# Altium integrated library Microchip PIC16 Part 1.IntLib: 1800 symbols (part 90 of 93)
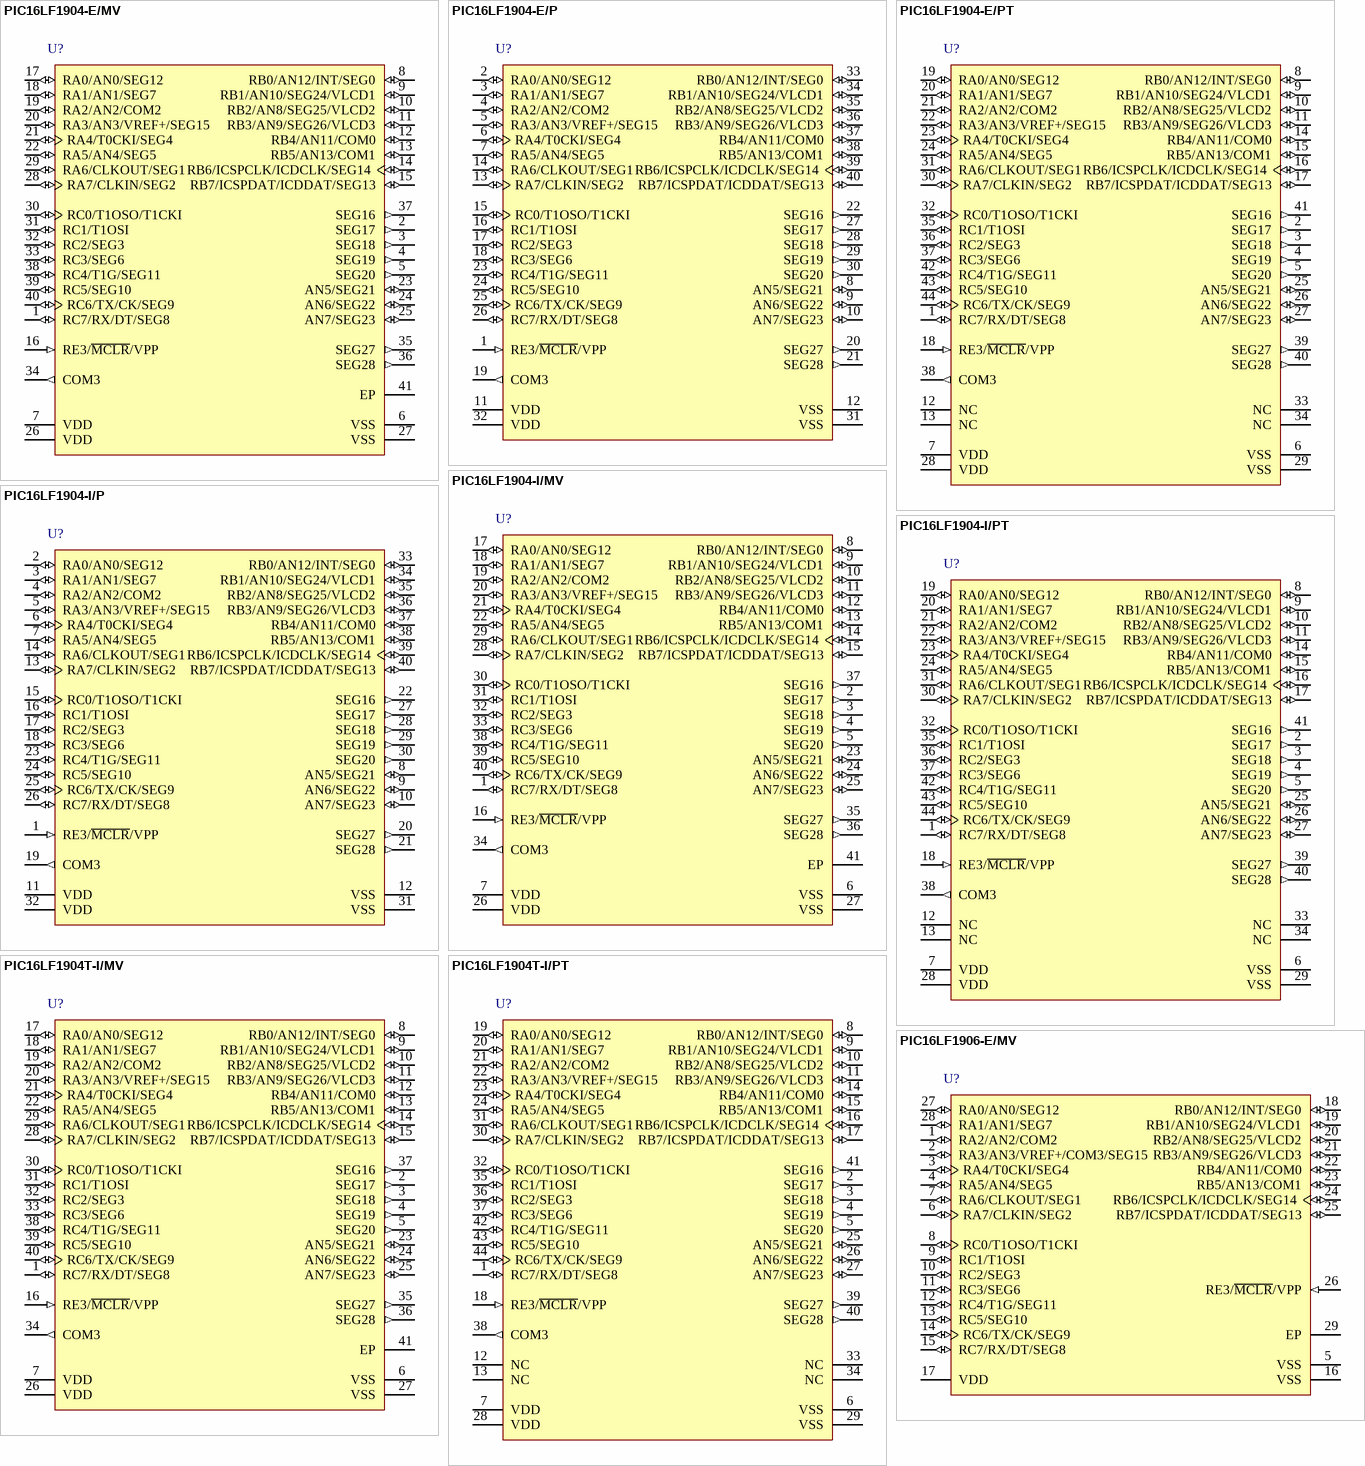
[diagram p188: symbols PIC16LF1904-E/MV to PIC16LF1906-E/MV]

## PIC16LF1904-E/PT
designator U?
Flash-Based, 8-Bit CMOS Microcontroller with LCD Driver and nanoWatt XLP Technology, 20 MHz, 35 I/O, -40 to 125 degC, 44-pin TQFP (PT44), Tray; Manufacturer: Microchip; PartNumber: PIC16LF1904-E/PT; # of A/D Channels: 14; Digital Communication: 1 -A/E/USART; I/O Pins: 35; Internal Oscillator: 16 MHz, 31 kHz; Max. CPU Speed MHz: 20; Memory Type: Flash; Operation Voltage Range: 1.8V - 3.6V; Program Memory KBytes: 7; Program Memory KWords: 4; RAM: 256; Timers: 1 - 8-bit, 1 - 16-bit; DatasheetVersion: Rev. A; PackageVersion: C04-076B, 12/2012; PackageReference: TQFP-PT44; PackageDescription: 44-Lead Plastic Thin Quad Flatpack, 10 x 10 mm Body, 0.8 mm Pitch; Supplier 1: Digi-Key; Supplier Part Number 1: PIC16LF1904-E/PT-ND; Supplier 2: Mouser; Supplier Part Number 2: 579-PIC16LF1904-E/PT; Packing: TRAY; RoHS: TRUE; Mounting Technology: Surface Mount; ComponentLink1Description: Datasheet; ComponentLink1URL: http://ww1.microchip.com/downloads/en/DeviceDoc/41569A.pdf; ComponentLink2Description: Package Specification; ComponentLink2URL: http://www.microchip.com/stellent/groups/techpub_sg/documents/packagingspec/en012702.pdf; ComponentLink3Description: URL Link1; ComponentLink3URL: Product URL:http://www.microchip.com/datasheet/PIC16LF1904
footprint MCHP-TQFP-PT44_N (QFN, 44-Leads, Body 10x10mm, Pitch 0.8mm, IPC Medium Density)
footprint MCHP-TQFP-PT44_L (QFN, 44-Leads, Body 10x10mm, Pitch 0.8mm, IPC High Density)
footprint MCHP-TQFP-PT44_M (QFN, 44-Leads, Body 10x10mm, Pitch 0.8mm, IPC Low Density)
pins: 1 RC7/RX/DT/SEG8 (io), 2 SEG17 (out) "LCD Analog output.", 3 SEG18 (out) "LCD Analog output.", 4 SEG19 (out) "LCD Analog output.", 5 SEG20 (out) "LCD Analog output.", 6 VSS (power) "Ground reference.", 7 VDD (power) "Positive supply.", 8 RB0/AN12/INT/SEG0 (io), 9 RB1/AN10/SEG24/VLCD1 (io), 10 RB2/AN8/SEG25/VLCD2 (io), 11 RB3/AN9/SEG26/VLCD3 (io), 12 NC, 13 NC, 14 RB4/AN11/COM0 (io), 15 RB5/AN13/COM1 (io), 16 RB6/ICSPCLK/ICDCLK/SEG14 (io), 17 RB7/ICSPDAT/ICDDAT/SEG13 (io), 18 RE3/~{MCLR}/VPP (in), 19 RA0/AN0/SEG12 (io), 20 RA1/AN1/SEG7 (io), 21 RA2/AN2/COM2 (io), 22 RA3/AN3/VREF+/SEG15 (io), 23 RA4/T0CKI/SEG4 (io), 24 RA5/AN4/SEG5 (io), 25 AN5/SEG21 (io), 26 AN6/SEG22 (io), 27 AN7/SEG23 (io), 28 VDD (power) "Positive supply.", 29 VSS (power) "Ground reference.", 30 RA7/CLKIN/SEG2 (io), 31 RA6/CLKOUT/SEG1 (io), 32 RC0/T1OSO/T1CKI (io), 33 NC, 34 NC, 35 RC1/T1OSI (io), 36 RC2/SEG3 (io), 37 RC3/SEG6 (io), 38 COM3 (out) "LCD Analog output.", 39 SEG27 (out) "LCD Analog output.", 40 SEG28 (out) "LCD Analog output.", 41 SEG16 (out) "LCD Analog output.", 42 RC4/T1G/SEG11 (io), 43 RC5/SEG10 (io), 44 RC6/TX/CK/SEG9 (io)

## PIC16LF1904-I/MV
designator U?
Flash-Based, 8-Bit CMOS Microcontroller with LCD Driver and nanoWatt XLP Technology, 20 MHz, 35 I/O, -40 to 85 degC, 40-pin UQFN (MV40), Tube; Manufacturer: Microchip; PartNumber: PIC16LF1904-I/MV; # of A/D Channels: 14; Digital Communication: 1 -A/E/USART; I/O Pins: 35; Internal Oscillator: 16 MHz, 31 kHz; Max. CPU Speed MHz: 20; Memory Type: Flash; Operation Voltage Range: 1.8V - 3.6V; Program Memory KBytes: 7; Program Memory KWords: 4; RAM: 256; Timers: 1 - 8-bit, 1 - 16-bit; DatasheetVersion: Rev. A; PackageVersion: C04-156A, 04/2013; PackageReference: UQFN-MV40; PackageDescription: 40-Lead Plastic Ultra Thin Quad Flat, No Lead Package, Body 5 x 5 mm, Pitch 0.4 mm; Supplier 1: Digi-Key; Supplier Part Number 1: PIC16LF1904-I/MV-ND; Supplier 2: Farnell; Supplier Part Number 2: 1909412; Supplier 3: Newark; Supplier Part Number 3: 23T3129; Supplier 4: Mouser; Supplier Part Number 4: 579-PIC16LF1904-I/MV; Packing: TUBE; RoHS: TRUE; Mounting Technology: Surface Mount; ComponentLink1Description: Datasheet; ComponentLink1URL: http://ww1.microchip.com/downloads/en/DeviceDoc/41569A.pdf; ComponentLink2Description: Package Specification; ComponentLink2URL: http://www.microchip.com/stellent/groups/techpub_sg/documents/packagingspec/en012702.pdf; ComponentLink3Description: URL Link1; ComponentLink3URL: Product URL:http://www.microchip.com/datasheet/PIC16LF1904
footprint MCHP-UQFN-MV40_N (QFN, 40-Leads, Body 5x5mm, Pitch 0.4mm, Thermal Pad 3.7x3.7mm, IPC Medium Density)
footprint MCHP-UQFN-MV40_L (QFN, 40-Leads, Body 5x5mm, Pitch 0.4mm, Thermal Pad 3.7x3.7mm, IPC High Density)
footprint MCHP-UQFN-MV40_M (QFN, 40-Leads, Body 5x5mm, Pitch 0.4mm, Thermal Pad 3.7x3.7mm, IPC Low Density)
pins: 1 RC7/RX/DT/SEG8 (io), 2 SEG17 (out) "LCD Analog output.", 3 SEG18 (out) "LCD Analog output.", 4 SEG19 (out) "LCD Analog output.", 5 SEG20 (out) "LCD Analog output.", 6 VSS (power) "Ground reference.", 7 VDD (power) "Positive supply.", 8 RB0/AN12/INT/SEG0 (io), 9 RB1/AN10/SEG24/VLCD1 (io), 10 RB2/AN8/SEG25/VLCD2 (io), 11 RB3/AN9/SEG26/VLCD3 (io), 12 RB4/AN11/COM0 (io), 13 RB5/AN13/COM1 (io), 14 RB6/ICSPCLK/ICDCLK/SEG14 (io), 15 RB7/ICSPDAT/ICDDAT/SEG13 (io), 16 RE3/~{MCLR}/VPP (in), 17 RA0/AN0/SEG12 (io), 18 RA1/AN1/SEG7 (io), 19 RA2/AN2/COM2 (io), 20 RA3/AN3/VREF+/SEG15 (io), 21 RA4/T0CKI/SEG4 (io), 22 RA5/AN4/SEG5 (io), 23 AN5/SEG21 (io), 24 AN6/SEG22 (io), 25 AN7/SEG23 (io), 26 VDD (power) "Positive supply.", 27 VSS (power) "Ground reference.", 28 RA7/CLKIN/SEG2 (io), 29 RA6/CLKOUT/SEG1 (io), 30 RC0/T1OSO/T1CKI (io), 31 RC1/T1OSI (io), 32 RC2/SEG3 (io), 33 RC3/SEG6 (io), 34 COM3 (out) "LCD Analog output.", 35 SEG27 (out) "LCD Analog output.", 36 SEG28 (out) "LCD Analog output.", 37 SEG16 (out) "LCD Analog output.", 38 RC4/T1G/SEG11 (io), 39 RC5/SEG10 (io), 40 RC6/TX/CK/SEG9 (io), 41 EP

## PIC16LF1904-I/P
designator U?
Flash-Based, 8-Bit CMOS Microcontroller with LCD Driver and nanoWatt XLP Technology, 20 MHz, 35 I/O, -40 to 85 degC, 40-pin PDIP (P40), Tube; Manufacturer: Microchip; PartNumber: PIC16LF1904-I/P; # of A/D Channels: 14; Digital Communication: 1 -A/E/USART; I/O Pins: 35; Internal Oscillator: 16 MHz, 31 kHz; Max. CPU Speed MHz: 20; Memory Type: Flash; Operation Voltage Range: 1.8V - 3.6V; Program Memory KBytes: 7; Program Memory KWords: 4; RAM: 256; Timers: 1 - 8-bit, 1 - 16-bit; DatasheetVersion: Rev. A; PackageVersion: C04-016B, 04/2013; PackageReference: PDIP-P40; PackageDescription: 40-Lead Plastic Dual In-Line Package, Body 51.75 x 13.53 mm, Pitch 2.54 mm; Supplier 1: Digi-Key; Supplier Part Number 1: PIC16LF1904-I/P-ND; Supplier 2: Farnell; Supplier Part Number 2: 1909434; Supplier 3: Newark; Supplier Part Number 3: 23T3130; Supplier 4: Mouser; Supplier Part Number 4: 579-PIC16LF1904-I/P; Packing: TUBE; RoHS: TRUE; Mounting Technology: Through Hole; ComponentLink1Description: Datasheet; ComponentLink1URL: http://ww1.microchip.com/downloads/en/DeviceDoc/41569A.pdf; ComponentLink2Description: Package Specification; ComponentLink2URL: http://www.microchip.com/stellent/groups/techpub_sg/documents/packagingspec/en012702.pdf; ComponentLink3Description: URL Link1; ComponentLink3URL: Product URL:http://www.microchip.com/datasheet/PIC16LF1904
footprint MCHP-PDIP-P40 (PDIP, 40-Leads, Body 51.75x13.53mm, Pitch 2.54mm)
pins: 1 RE3/~{MCLR}/VPP (in), 2 RA0/AN0/SEG12 (io), 3 RA1/AN1/SEG7 (io), 4 RA2/AN2/COM2 (io), 5 RA3/AN3/VREF+/SEG15 (io), 6 RA4/T0CKI/SEG4 (io), 7 RA5/AN4/SEG5 (io), 8 AN5/SEG21 (io), 9 AN6/SEG22 (io), 10 AN7/SEG23 (io), 11 VDD (power) "Positive supply.", 12 VSS (power) "Ground reference.", 13 RA7/CLKIN/SEG2 (io), 14 RA6/CLKOUT/SEG1 (io), 15 RC0/T1OSO/T1CKI (io), 16 RC1/T1OSI (io), 17 RC2/SEG3 (io), 18 RC3/SEG6 (io), 19 COM3 (out) "LCD Analog output.", 20 SEG27 (out) "LCD Analog output.", 21 SEG28 (out) "LCD Analog output.", 22 SEG16 (out) "LCD Analog output.", 23 RC4/T1G/SEG11 (io), 24 RC5/SEG10 (io), 25 RC6/TX/CK/SEG9 (io), 26 RC7/RX/DT/SEG8 (io), 27 SEG17 (out) "LCD Analog output.", 28 SEG18 (out) "LCD Analog output.", 29 SEG19 (out) "LCD Analog output.", 30 SEG20 (out) "LCD Analog output.", 31 VSS (power) "Ground reference.", 32 VDD (power) "Positive supply.", 33 RB0/AN12/INT/SEG0 (io), 34 RB1/AN10/SEG24/VLCD1 (io), 35 RB2/AN8/SEG25/VLCD2 (io), 36 RB3/AN9/SEG26/VLCD3 (io), 37 RB4/AN11/COM0 (io), 38 RB5/AN13/COM1 (io), 39 RB6/ICSPCLK/ICDCLK/SEG14 (io), 40 RB7/ICSPDAT/ICDDAT/SEG13 (io)

## PIC16LF1904-I/PT
designator U?
Flash-Based, 8-Bit CMOS Microcontroller with LCD Driver and nanoWatt XLP Technology, 20 MHz, 35 I/O, -40 to 85 degC, 44-pin TQFP (PT44), Tray; Manufacturer: Microchip; PartNumber: PIC16LF1904-I/PT; # of A/D Channels: 14; Digital Communication: 1 -A/E/USART; I/O Pins: 35; Internal Oscillator: 16 MHz, 31 kHz; Max. CPU Speed MHz: 20; Memory Type: Flash; Operation Voltage Range: 1.8V - 3.6V; Program Memory KBytes: 7; Program Memory KWords: 4; RAM: 256; Timers: 1 - 8-bit, 1 - 16-bit; DatasheetVersion: Rev. A; PackageVersion: C04-076B, 12/2012; PackageReference: TQFP-PT44; PackageDescription: 44-Lead Plastic Thin Quad Flatpack, 10 x 10 mm Body, 0.8 mm Pitch; Supplier 1: Digi-Key; Supplier Part Number 1: PIC16LF1904-I/PT-ND; Supplier 2: Farnell; Supplier Part Number 2: 1909413; Supplier 3: Newark; Supplier Part Number 3: 23T3131; Supplier 4: Mouser; Supplier Part Number 4: 579-PIC16LF1904-I/PT; Packing: TRAY; RoHS: TRUE; Mounting Technology: Surface Mount; ComponentLink1Description: Datasheet; ComponentLink1URL: http://ww1.microchip.com/downloads/en/DeviceDoc/41569A.pdf; ComponentLink2Description: Package Specification; ComponentLink2URL: http://www.microchip.com/stellent/groups/techpub_sg/documents/packagingspec/en012702.pdf; ComponentLink3Description: URL Link1; ComponentLink3URL: Product URL:http://www.microchip.com/datasheet/PIC16LF1904
footprint MCHP-TQFP-PT44_N (QFN, 44-Leads, Body 10x10mm, Pitch 0.8mm, IPC Medium Density)
footprint MCHP-TQFP-PT44_L (QFN, 44-Leads, Body 10x10mm, Pitch 0.8mm, IPC High Density)
footprint MCHP-TQFP-PT44_M (QFN, 44-Leads, Body 10x10mm, Pitch 0.8mm, IPC Low Density)
pins: 1 RC7/RX/DT/SEG8 (io), 2 SEG17 (out) "LCD Analog output.", 3 SEG18 (out) "LCD Analog output.", 4 SEG19 (out) "LCD Analog output.", 5 SEG20 (out) "LCD Analog output.", 6 VSS (power) "Ground reference.", 7 VDD (power) "Positive supply.", 8 RB0/AN12/INT/SEG0 (io), 9 RB1/AN10/SEG24/VLCD1 (io), 10 RB2/AN8/SEG25/VLCD2 (io), 11 RB3/AN9/SEG26/VLCD3 (io), 12 NC, 13 NC, 14 RB4/AN11/COM0 (io), 15 RB5/AN13/COM1 (io), 16 RB6/ICSPCLK/ICDCLK/SEG14 (io), 17 RB7/ICSPDAT/ICDDAT/SEG13 (io), 18 RE3/~{MCLR}/VPP (in), 19 RA0/AN0/SEG12 (io), 20 RA1/AN1/SEG7 (io), 21 RA2/AN2/COM2 (io), 22 RA3/AN3/VREF+/SEG15 (io), 23 RA4/T0CKI/SEG4 (io), 24 RA5/AN4/SEG5 (io), 25 AN5/SEG21 (io), 26 AN6/SEG22 (io), 27 AN7/SEG23 (io), 28 VDD (power) "Positive supply.", 29 VSS (power) "Ground reference.", 30 RA7/CLKIN/SEG2 (io), 31 RA6/CLKOUT/SEG1 (io), 32 RC0/T1OSO/T1CKI (io), 33 NC, 34 NC, 35 RC1/T1OSI (io), 36 RC2/SEG3 (io), 37 RC3/SEG6 (io), 38 COM3 (out) "LCD Analog output.", 39 SEG27 (out) "LCD Analog output.", 40 SEG28 (out) "LCD Analog output.", 41 SEG16 (out) "LCD Analog output.", 42 RC4/T1G/SEG11 (io), 43 RC5/SEG10 (io), 44 RC6/TX/CK/SEG9 (io)

## PIC16LF1904T-I/MV
designator U?
Flash-Based, 8-Bit CMOS Microcontroller with LCD Driver and nanoWatt XLP Technology, 20 MHz, 35 I/O, -40 to 85 degC, 40-pin UQFN (MV40), Tape and Reel; Manufacturer: Microchip; PartNumber: PIC16LF1904T-I/MV; # of A/D Channels: 14; Digital Communication: 1 -A/E/USART; I/O Pins: 35; Internal Oscillator: 16 MHz, 31 kHz; Max. CPU Speed MHz: 20; Memory Type: Flash; Operation Voltage Range: 1.8V - 3.6V; Packing: T/R; Program Memory KBytes: 7; Program Memory KWords: 4; RAM: 256; Timers: 1 - 8-bit, 1 - 16-bit; DatasheetVersion: Rev. A; PackageVersion: C04-156A, 04/2013; PackageReference: UQFN-MV40; PackageDescription: 40-Lead Plastic Ultra Thin Quad Flat, No Lead Package, Body 5 x 5 mm, Pitch 0.4 mm; Supplier 1: Digi-Key; Supplier Part Number 1: PIC16LF1904T-I/MV-ND; Supplier 2: Mouser; Supplier Part Number 2: 579-PIC16LF1904T-IMV; RoHS: TRUE; Mounting Technology: Surface Mount; ComponentLink1Description: Datasheet; ComponentLink1URL: http://ww1.microchip.com/downloads/en/DeviceDoc/41569A.pdf; ComponentLink2Description: Package Specification; ComponentLink2URL: http://www.microchip.com/stellent/groups/techpub_sg/documents/packagingspec/en012702.pdf; ComponentLink3Description: URL Link1; ComponentLink3URL: Product URL:http://www.microchip.com/datasheet/PIC16LF1904
footprint MCHP-UQFN-MV40_N (QFN, 40-Leads, Body 5x5mm, Pitch 0.4mm, Thermal Pad 3.7x3.7mm, IPC Medium Density)
footprint MCHP-UQFN-MV40_L (QFN, 40-Leads, Body 5x5mm, Pitch 0.4mm, Thermal Pad 3.7x3.7mm, IPC High Density)
footprint MCHP-UQFN-MV40_M (QFN, 40-Leads, Body 5x5mm, Pitch 0.4mm, Thermal Pad 3.7x3.7mm, IPC Low Density)
pins: 1 RC7/RX/DT/SEG8 (io), 2 SEG17 (out) "LCD Analog output.", 3 SEG18 (out) "LCD Analog output.", 4 SEG19 (out) "LCD Analog output.", 5 SEG20 (out) "LCD Analog output.", 6 VSS (power) "Ground reference.", 7 VDD (power) "Positive supply.", 8 RB0/AN12/INT/SEG0 (io), 9 RB1/AN10/SEG24/VLCD1 (io), 10 RB2/AN8/SEG25/VLCD2 (io), 11 RB3/AN9/SEG26/VLCD3 (io), 12 RB4/AN11/COM0 (io), 13 RB5/AN13/COM1 (io), 14 RB6/ICSPCLK/ICDCLK/SEG14 (io), 15 RB7/ICSPDAT/ICDDAT/SEG13 (io), 16 RE3/~{MCLR}/VPP (in), 17 RA0/AN0/SEG12 (io), 18 RA1/AN1/SEG7 (io), 19 RA2/AN2/COM2 (io), 20 RA3/AN3/VREF+/SEG15 (io), 21 RA4/T0CKI/SEG4 (io), 22 RA5/AN4/SEG5 (io), 23 AN5/SEG21 (io), 24 AN6/SEG22 (io), 25 AN7/SEG23 (io), 26 VDD (power) "Positive supply.", 27 VSS (power) "Ground reference.", 28 RA7/CLKIN/SEG2 (io), 29 RA6/CLKOUT/SEG1 (io), 30 RC0/T1OSO/T1CKI (io), 31 RC1/T1OSI (io), 32 RC2/SEG3 (io), 33 RC3/SEG6 (io), 34 COM3 (out) "LCD Analog output.", 35 SEG27 (out) "LCD Analog output.", 36 SEG28 (out) "LCD Analog output.", 37 SEG16 (out) "LCD Analog output.", 38 RC4/T1G/SEG11 (io), 39 RC5/SEG10 (io), 40 RC6/TX/CK/SEG9 (io), 41 EP

## PIC16LF1904T-I/PT
designator U?
Flash-Based, 8-Bit CMOS Microcontroller with LCD Driver and nanoWatt XLP Technology, 20 MHz, 35 I/O, -40 to 85 degC, 44-pin TQFP (PT44), Tape and Reel; Manufacturer: Microchip; PartNumber: PIC16LF1904T-I/PT; # of A/D Channels: 14; Digital Communication: 1 -A/E/USART; I/O Pins: 35; Internal Oscillator: 16 MHz, 31 kHz; Max. CPU Speed MHz: 20; Memory Type: Flash; Operation Voltage Range: 1.8V - 3.6V; Packing: T/R; Program Memory KBytes: 7; Program Memory KWords: 4; RAM: 256; Timers: 1 - 8-bit, 1 - 16-bit; DatasheetVersion: Rev. A; PackageVersion: C04-076B, 12/2012; PackageReference: TQFP-PT44; PackageDescription: 44-Lead Plastic Thin Quad Flatpack, 10 x 10 mm Body, 0.8 mm Pitch; Supplier 1: Digi-Key; Supplier Part Number 1: PIC16LF1904T-I/PT-ND; Supplier 2: Mouser; Supplier Part Number 2: 579-PIC16LF1904T-IPT; RoHS: TRUE; Mounting Technology: Surface Mount; ComponentLink1Description: Datasheet; ComponentLink1URL: http://ww1.microchip.com/downloads/en/DeviceDoc/41569A.pdf; ComponentLink2Description: Package Specification; ComponentLink2URL: http://www.microchip.com/stellent/groups/techpub_sg/documents/packagingspec/en012702.pdf; ComponentLink3Description: URL Link1; ComponentLink3URL: Product URL:http://www.microchip.com/datasheet/PIC16LF1904
footprint MCHP-TQFP-PT44_N (QFN, 44-Leads, Body 10x10mm, Pitch 0.8mm, IPC Medium Density)
footprint MCHP-TQFP-PT44_L (QFN, 44-Leads, Body 10x10mm, Pitch 0.8mm, IPC High Density)
footprint MCHP-TQFP-PT44_M (QFN, 44-Leads, Body 10x10mm, Pitch 0.8mm, IPC Low Density)
pins: 1 RC7/RX/DT/SEG8 (io), 2 SEG17 (out) "LCD Analog output.", 3 SEG18 (out) "LCD Analog output.", 4 SEG19 (out) "LCD Analog output.", 5 SEG20 (out) "LCD Analog output.", 6 VSS (power) "Ground reference.", 7 VDD (power) "Positive supply.", 8 RB0/AN12/INT/SEG0 (io), 9 RB1/AN10/SEG24/VLCD1 (io), 10 RB2/AN8/SEG25/VLCD2 (io), 11 RB3/AN9/SEG26/VLCD3 (io), 12 NC, 13 NC, 14 RB4/AN11/COM0 (io), 15 RB5/AN13/COM1 (io), 16 RB6/ICSPCLK/ICDCLK/SEG14 (io), 17 RB7/ICSPDAT/ICDDAT/SEG13 (io), 18 RE3/~{MCLR}/VPP (in), 19 RA0/AN0/SEG12 (io), 20 RA1/AN1/SEG7 (io), 21 RA2/AN2/COM2 (io), 22 RA3/AN3/VREF+/SEG15 (io), 23 RA4/T0CKI/SEG4 (io), 24 RA5/AN4/SEG5 (io), 25 AN5/SEG21 (io), 26 AN6/SEG22 (io), 27 AN7/SEG23 (io), 28 VDD (power) "Positive supply.", 29 VSS (power) "Ground reference.", 30 RA7/CLKIN/SEG2 (io), 31 RA6/CLKOUT/SEG1 (io), 32 RC0/T1OSO/T1CKI (io), 33 NC, 34 NC, 35 RC1/T1OSI (io), 36 RC2/SEG3 (io), 37 RC3/SEG6 (io), 38 COM3 (out) "LCD Analog output.", 39 SEG27 (out) "LCD Analog output.", 40 SEG28 (out) "LCD Analog output.", 41 SEG16 (out) "LCD Analog output.", 42 RC4/T1G/SEG11 (io), 43 RC5/SEG10 (io), 44 RC6/TX/CK/SEG9 (io)

## PIC16LF1906-E/MV
designator U?
Flash-Based, 8-Bit CMOS Microcontroller with LCD Driver and nanoWatt XLP Technology, 20 MHz, 25 I/O, -40 to 125 degC, 28-pin UQFN (MV28), Tube; Manufacturer: Microchip; PartNumber: PIC16LF1906-E/MV; # of A/D Channels: 11; Digital Communication: 1 -A/E/USART; I/O Pins: 25; Internal Oscillator: 16 MHz, 31 kHz; Max. CPU Speed MHz: 20; Memory Type: Flash; Operation Voltage Range: 1.8V - 3.6V; Program Memory KBytes: 14; Program Memory KWords: 8; RAM: 512; Timers: 1 - 8-bit, 1 - 16-bit; DatasheetVersion: Rev. A; PackageVersion: C04-152A, 04/2013; PackageReference: UQFN-MV28; PackageDescription: 28-Lead Plastic Ultra Thin Quad Flat, Body 4 x 4 mm, Pitch 0.4 mm; Supplier 1: Digi-Key; Supplier Part Number 1: PIC16LF1906-E/MV-ND; Supplier 2: Mouser; Supplier Part Number 2: 579-PIC16LF1906-E/MV; Packing: TUBE; RoHS: TRUE; Mounting Technology: Surface Mount; ComponentLink1Description: Datasheet; ComponentLink1URL: http://ww1.microchip.com/downloads/en/DeviceDoc/41569A.pdf; ComponentLink2Description: Package Specification; ComponentLink2URL: http://www.microchip.com/stellent/groups/techpub_sg/documents/packagingspec/en012702.pdf; ComponentLink3Description: URL Link1; ComponentLink3URL: Product URL:http://www.microchip.com/datasheet/PIC16LF1906
footprint MCHP-UQFN-MV28_N (QFN, 28-Leads, Body 4x4mm, Pitch 0.4mm, Thermal Pad 2.65x2.65mm, IPC Medium Density)
footprint MCHP-UQFN-MV28_L (QFN, 28-Leads, Body 4x4mm, Pitch 0.4mm, Thermal Pad 2.65x2.65mm, IPC High Density)
footprint MCHP-UQFN-MV28_M (QFN, 28-Leads, Body 4x4mm, Pitch 0.4mm, Thermal Pad 2.65x2.65mm, IPC Low Density)
pins: 1 RA2/AN2/COM2 (io), 2 RA3/AN3/VREF+/COM3/SEG15 (io), 3 RA4/T0CKI/SEG4 (io), 4 RA5/AN4/SEG5 (io), 5 VSS (power) "Ground reference.", 6 RA7/CLKIN/SEG2 (io), 7 RA6/CLKOUT/SEG1 (io), 8 RC0/T1OSO/T1CKI (io), 9 RC1/T1OSI (io), 10 RC2/SEG3 (io), 11 RC3/SEG6 (io), 12 RC4/T1G/SEG11 (io), 13 RC5/SEG10 (io), 14 RC6/TX/CK/SEG9 (io), 15 RC7/RX/DT/SEG8 (io), 16 VSS (power) "Ground reference.", 17 VDD (power) "Positive supply.", 18 RB0/AN12/INT/SEG0 (io), 19 RB1/AN10/SEG24/VLCD1 (io), 20 RB2/AN8/SEG25/VLCD2 (io), 21 RB3/AN9/SEG26/VLCD3 (io), 22 RB4/AN11/COM0 (io), 23 RB5/AN13/COM1 (io), 24 RB6/ICSPCLK/ICDCLK/SEG14 (io), 25 RB7/ICSPDAT/ICDDAT/SEG13 (io), 26 RE3/~{MCLR}/VPP (in), 27 RA0/AN0/SEG12 (io), 28 RA1/AN1/SEG7 (io), 29 EP

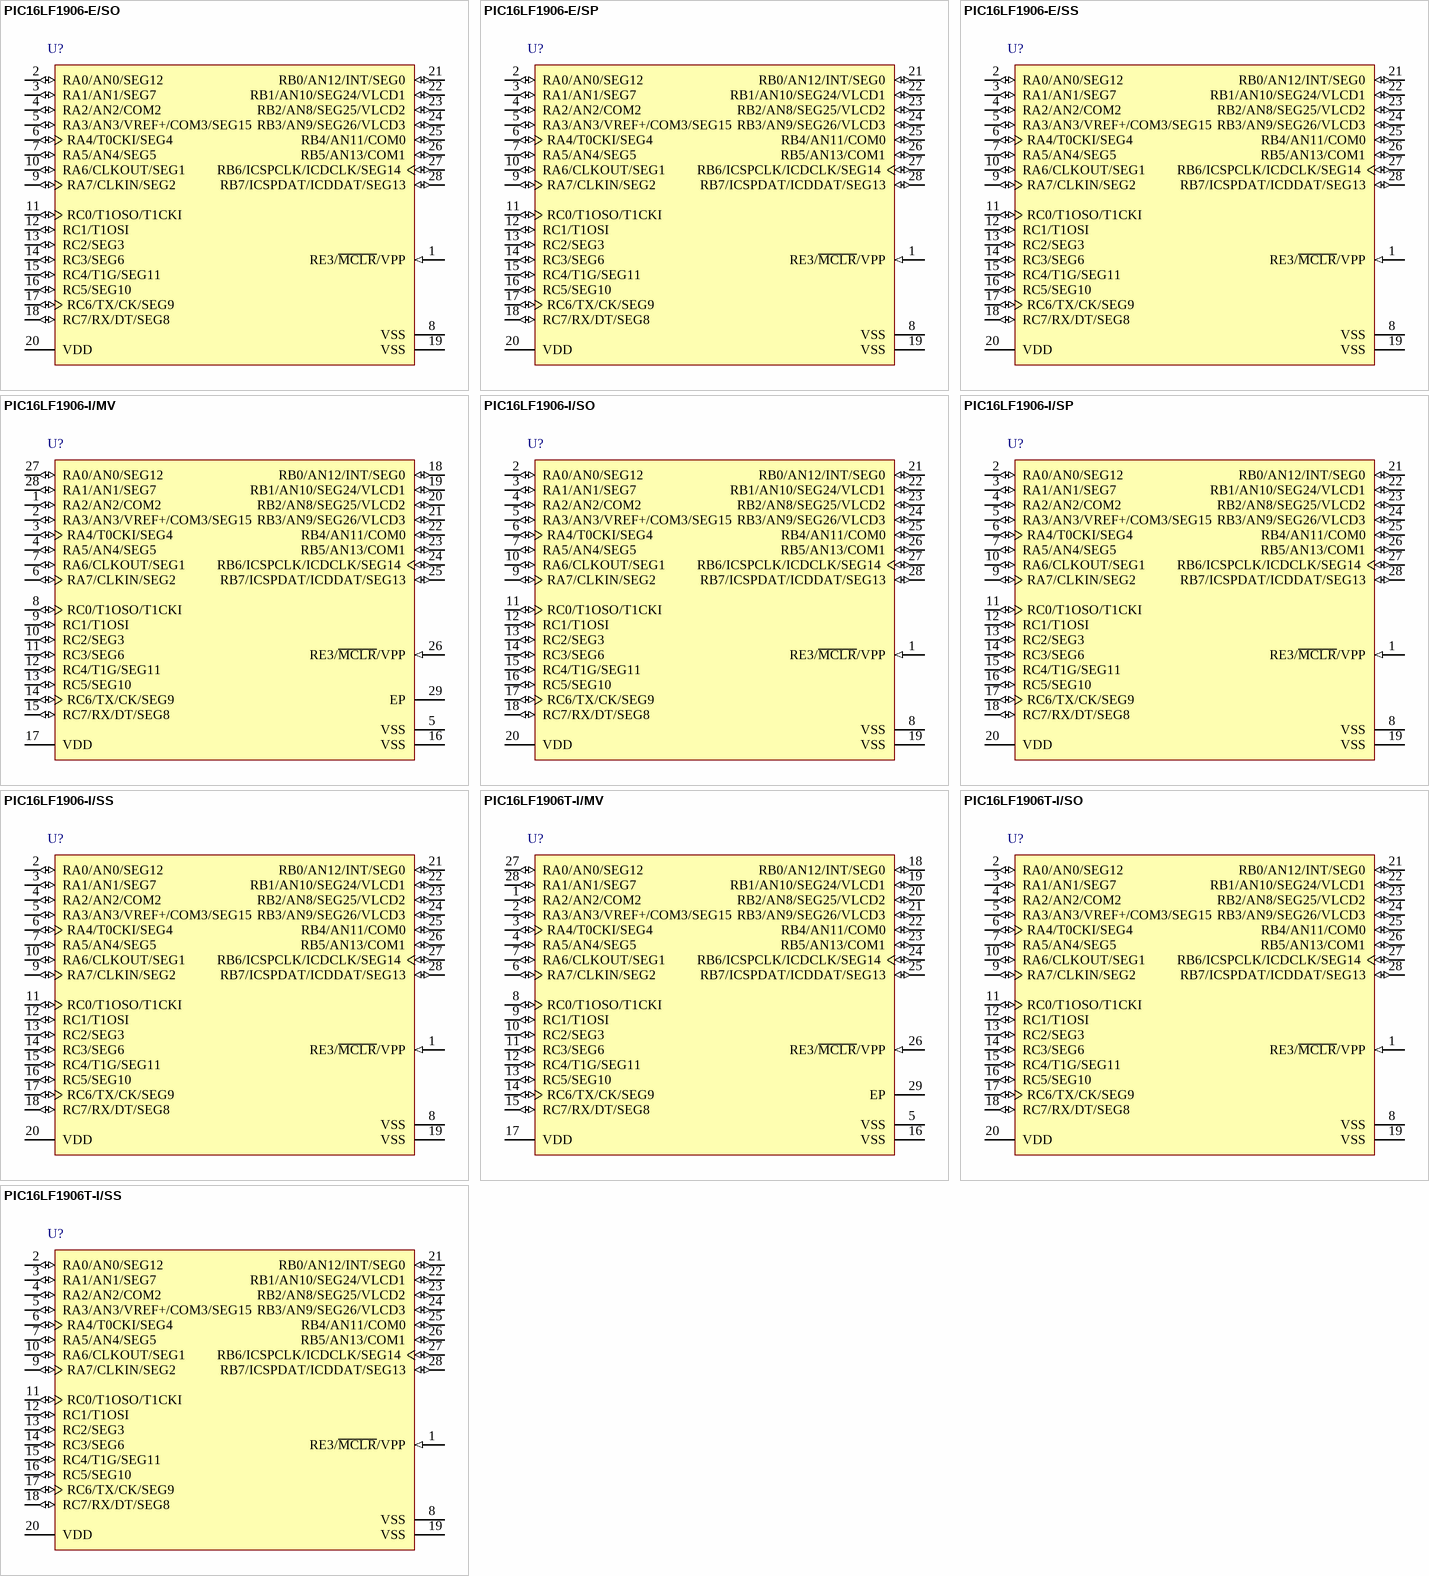
[diagram p96: symbols PIC16LF1906-E/SO to PIC16LF1906T-I/SS]

## PIC16LF1906-E/SO
designator U?
Flash-Based, 8-Bit CMOS Microcontroller with LCD Driver and nanoWatt XLP Technology, 20 MHz, 25 I/O, -40 to 125 degC, 28-pin SOIC (SO28), Tube; Manufacturer: Microchip; PartNumber: PIC16LF1906-E/SO; # of A/D Channels: 11; Digital Communication: 1 -A/E/USART; I/O Pins: 25; Internal Oscillator: 16 MHz, 31 kHz; Max. CPU Speed MHz: 20; Memory Type: Flash; Operation Voltage Range: 1.8V - 3.6V; Program Memory KBytes: 14; Program Memory KWords: 8; RAM: 512; Timers: 1 - 8-bit, 1 - 16-bit; DatasheetVersion: Rev. A; PackageVersion: C04-052C, 12/2012; PackageReference: SOIC-SO28; PackageDescription: 28-Lead Plastic Small Outline, 17.9 x 7.5 mm Body, 1.27 mm Pitch; Supplier 1: Digi-Key; Supplier Part Number 1: PIC16LF1906-E/SO-ND; Supplier 2: Mouser; Supplier Part Number 2: 579-PIC16LF1906-E/SO; Packing: TUBE; RoHS: TRUE; Mounting Technology: Surface Mount; ComponentLink1Description: Datasheet; ComponentLink1URL: http://ww1.microchip.com/downloads/en/DeviceDoc/41569A.pdf; ComponentLink2Description: Package Specification; ComponentLink2URL: http://www.microchip.com/stellent/groups/techpub_sg/documents/packagingspec/en012702.pdf; ComponentLink3Description: URL Link1; ComponentLink3URL: Product URL:http://www.microchip.com/datasheet/PIC16LF1906
footprint MCHP-SOIC-SO28_N (SOIC, 28-Leads, Body 17.9x7.5mm, Pitch 1.27mm, IPC Medium Density)
footprint MCHP-SOIC-SO28_L (SOIC, 28-Leads, Body 17.9x7.5mm, Pitch 1.27mm, IPC High Density)
footprint MCHP-SOIC-SO28_M (SOIC, 28-Leads, Body 17.9x7.5mm, Pitch 1.27mm, IPC Low Density)
pins: 1 RE3/~{MCLR}/VPP (in), 2 RA0/AN0/SEG12 (io), 3 RA1/AN1/SEG7 (io), 4 RA2/AN2/COM2 (io), 5 RA3/AN3/VREF+/COM3/SEG15 (io), 6 RA4/T0CKI/SEG4 (io), 7 RA5/AN4/SEG5 (io), 8 VSS (power) "Ground reference.", 9 RA7/CLKIN/SEG2 (io), 10 RA6/CLKOUT/SEG1 (io), 11 RC0/T1OSO/T1CKI (io), 12 RC1/T1OSI (io), 13 RC2/SEG3 (io), 14 RC3/SEG6 (io), 15 RC4/T1G/SEG11 (io), 16 RC5/SEG10 (io), 17 RC6/TX/CK/SEG9 (io), 18 RC7/RX/DT/SEG8 (io), 19 VSS (power) "Ground reference.", 20 VDD (power) "Positive supply.", 21 RB0/AN12/INT/SEG0 (io), 22 RB1/AN10/SEG24/VLCD1 (io), 23 RB2/AN8/SEG25/VLCD2 (io), 24 RB3/AN9/SEG26/VLCD3 (io), 25 RB4/AN11/COM0 (io), 26 RB5/AN13/COM1 (io), 27 RB6/ICSPCLK/ICDCLK/SEG14 (io), 28 RB7/ICSPDAT/ICDDAT/SEG13 (io)

## PIC16LF1906-E/SP
designator U?
Flash-Based, 8-Bit CMOS Microcontroller with LCD Driver and nanoWatt XLP Technology, 20 MHz, 25 I/O, -40 to 125 degC, 28-pin SPDIP (SP28), Tube; Manufacturer: Microchip; PartNumber: PIC16LF1906-E/SP; # of A/D Channels: 11; Digital Communication: 1 -A/E/USART; I/O Pins: 25; Internal Oscillator: 16 MHz, 31 kHz; Max. CPU Speed MHz: 20; Memory Type: Flash; Operation Voltage Range: 1.8V - 3.6V; Program Memory KBytes: 14; Program Memory KWords: 8; RAM: 512; Timers: 1 - 8-bit, 1 - 16-bit; DatasheetVersion: Rev. A; PackageVersion: C04-070B, 12/2012; PackageReference: SPDIP-SP28; PackageDescription: 28-Lead Plastic Dual In-Line, 34.86 x 6.79 mm Body, 2.54 mm Pitch; Supplier 1: Digi-Key; Supplier Part Number 1: PIC16LF1906-E/SP-ND; Supplier 2: Mouser; Supplier Part Number 2: 579-PIC16LF1906-E/SP; Packing: TUBE; RoHS: TRUE; Mounting Technology: Through Hole; ComponentLink1Description: Datasheet; ComponentLink1URL: http://ww1.microchip.com/downloads/en/DeviceDoc/41569A.pdf; ComponentLink2Description: Package Specification; ComponentLink2URL: http://www.microchip.com/stellent/groups/techpub_sg/documents/packagingspec/en012702.pdf; ComponentLink3Description: URL Link1; ComponentLink3URL: Product URL:http://www.microchip.com/datasheet/PIC16LF1906
footprint MCHP-SPDIP-SP28 (DIP, 28-Leads, Body 34.86x6.79mm, Pitch 2.54mm)
pins: 1 RE3/~{MCLR}/VPP (in), 2 RA0/AN0/SEG12 (io), 3 RA1/AN1/SEG7 (io), 4 RA2/AN2/COM2 (io), 5 RA3/AN3/VREF+/COM3/SEG15 (io), 6 RA4/T0CKI/SEG4 (io), 7 RA5/AN4/SEG5 (io), 8 VSS (power) "Ground reference.", 9 RA7/CLKIN/SEG2 (io), 10 RA6/CLKOUT/SEG1 (io), 11 RC0/T1OSO/T1CKI (io), 12 RC1/T1OSI (io), 13 RC2/SEG3 (io), 14 RC3/SEG6 (io), 15 RC4/T1G/SEG11 (io), 16 RC5/SEG10 (io), 17 RC6/TX/CK/SEG9 (io), 18 RC7/RX/DT/SEG8 (io), 19 VSS (power) "Ground reference.", 20 VDD (power) "Positive supply.", 21 RB0/AN12/INT/SEG0 (io), 22 RB1/AN10/SEG24/VLCD1 (io), 23 RB2/AN8/SEG25/VLCD2 (io), 24 RB3/AN9/SEG26/VLCD3 (io), 25 RB4/AN11/COM0 (io), 26 RB5/AN13/COM1 (io), 27 RB6/ICSPCLK/ICDCLK/SEG14 (io), 28 RB7/ICSPDAT/ICDDAT/SEG13 (io)

## PIC16LF1906-E/SS
designator U?
Flash-Based, 8-Bit CMOS Microcontroller with LCD Driver and nanoWatt XLP Technology, 20 MHz, 25 I/O, -40 to 125 degC, 28-pin SSOP (SS28), Tube; Manufacturer: Microchip; PartNumber: PIC16LF1906-E/SS; # of A/D Channels: 11; Digital Communication: 1 -A/E/USART; I/O Pins: 25; Internal Oscillator: 16 MHz, 31 kHz; Max. CPU Speed MHz: 20; Memory Type: Flash; Operation Voltage Range: 1.8V - 3.6V; Program Memory KBytes: 14; Program Memory KWords: 8; RAM: 512; Timers: 1 - 8-bit, 1 - 16-bit; DatasheetVersion: Rev. A; PackageVersion: C04-073B, 12/2012; PackageReference: SSOP-SS28; PackageDescription: 28-Lead Plastic Shrink Small Outline, 10.2 x 5.3 mm Body, 0.65 mm Pitch; Supplier 1: Digi-Key; Supplier Part Number 1: PIC16LF1906-E/SS-ND; Supplier 2: Mouser; Supplier Part Number 2: 579-PIC16LF1906-E/SS; Packing: TUBE; RoHS: TRUE; Mounting Technology: Surface Mount; ComponentLink1Description: Datasheet; ComponentLink1URL: http://ww1.microchip.com/downloads/en/DeviceDoc/41569A.pdf; ComponentLink2Description: Package Specification; ComponentLink2URL: http://www.microchip.com/stellent/groups/techpub_sg/documents/packagingspec/en012702.pdf; ComponentLink3Description: URL Link1; ComponentLink3URL: Product URL:http://www.microchip.com/datasheet/PIC16LF1906
footprint MCHP-SSOP-SS28_N (SOP, 28-Leads, Body 10.2x5.3mm, Pitch 0.65mm, IPC Medium Density)
footprint MCHP-SSOP-SS28_L (SOP, 28-Leads, Body 10.2x5.3mm, Pitch 0.65mm, IPC High Density)
footprint MCHP-SSOP-SS28_M (SOP, 28-Leads, Body 10.2x5.3mm, Pitch 0.65mm, IPC Low Density)
pins: 1 RE3/~{MCLR}/VPP (in), 2 RA0/AN0/SEG12 (io), 3 RA1/AN1/SEG7 (io), 4 RA2/AN2/COM2 (io), 5 RA3/AN3/VREF+/COM3/SEG15 (io), 6 RA4/T0CKI/SEG4 (io), 7 RA5/AN4/SEG5 (io), 8 VSS (power) "Ground reference.", 9 RA7/CLKIN/SEG2 (io), 10 RA6/CLKOUT/SEG1 (io), 11 RC0/T1OSO/T1CKI (io), 12 RC1/T1OSI (io), 13 RC2/SEG3 (io), 14 RC3/SEG6 (io), 15 RC4/T1G/SEG11 (io), 16 RC5/SEG10 (io), 17 RC6/TX/CK/SEG9 (io), 18 RC7/RX/DT/SEG8 (io), 19 VSS (power) "Ground reference.", 20 VDD (power) "Positive supply.", 21 RB0/AN12/INT/SEG0 (io), 22 RB1/AN10/SEG24/VLCD1 (io), 23 RB2/AN8/SEG25/VLCD2 (io), 24 RB3/AN9/SEG26/VLCD3 (io), 25 RB4/AN11/COM0 (io), 26 RB5/AN13/COM1 (io), 27 RB6/ICSPCLK/ICDCLK/SEG14 (io), 28 RB7/ICSPDAT/ICDDAT/SEG13 (io)

## PIC16LF1906-I/MV
designator U?
Flash-Based, 8-Bit CMOS Microcontroller with LCD Driver and nanoWatt XLP Technology, 20 MHz, 25 I/O, -40 to 85 degC, 28-pin UQFN (MV28), Tube; Manufacturer: Microchip; PartNumber: PIC16LF1906-I/MV; # of A/D Channels: 11; Digital Communication: 1 -A/E/USART; I/O Pins: 25; Internal Oscillator: 16 MHz, 31 kHz; Max. CPU Speed MHz: 20; Memory Type: Flash; Operation Voltage Range: 1.8V - 3.6V; Program Memory KBytes: 14; Program Memory KWords: 8; RAM: 512; Timers: 1 - 8-bit, 1 - 16-bit; DatasheetVersion: Rev. A; PackageVersion: C04-152A, 04/2013; PackageReference: UQFN-MV28; PackageDescription: 28-Lead Plastic Ultra Thin Quad Flat, Body 4 x 4 mm, Pitch 0.4 mm; Supplier 1: Digi-Key; Supplier Part Number 1: PIC16LF1906-I/MV-ND; Supplier 2: Farnell; Supplier Part Number 2: 1889979; Supplier 3: Newark; Supplier Part Number 3: 23T3138; Supplier 4: Mouser; Supplier Part Number 4: 579-PIC16LF1906-I/MV; Packing: TUBE; RoHS: TRUE; Mounting Technology: Surface Mount; ComponentLink1Description: Datasheet; ComponentLink1URL: http://ww1.microchip.com/downloads/en/DeviceDoc/41569A.pdf; ComponentLink2Description: Package Specification; ComponentLink2URL: http://www.microchip.com/stellent/groups/techpub_sg/documents/packagingspec/en012702.pdf; ComponentLink3Description: URL Link1; ComponentLink3URL: Product URL:http://www.microchip.com/datasheet/PIC16LF1906
footprint MCHP-UQFN-MV28_N (QFN, 28-Leads, Body 4x4mm, Pitch 0.4mm, Thermal Pad 2.65x2.65mm, IPC Medium Density)
footprint MCHP-UQFN-MV28_L (QFN, 28-Leads, Body 4x4mm, Pitch 0.4mm, Thermal Pad 2.65x2.65mm, IPC High Density)
footprint MCHP-UQFN-MV28_M (QFN, 28-Leads, Body 4x4mm, Pitch 0.4mm, Thermal Pad 2.65x2.65mm, IPC Low Density)
pins: 1 RA2/AN2/COM2 (io), 2 RA3/AN3/VREF+/COM3/SEG15 (io), 3 RA4/T0CKI/SEG4 (io), 4 RA5/AN4/SEG5 (io), 5 VSS (power) "Ground reference.", 6 RA7/CLKIN/SEG2 (io), 7 RA6/CLKOUT/SEG1 (io), 8 RC0/T1OSO/T1CKI (io), 9 RC1/T1OSI (io), 10 RC2/SEG3 (io), 11 RC3/SEG6 (io), 12 RC4/T1G/SEG11 (io), 13 RC5/SEG10 (io), 14 RC6/TX/CK/SEG9 (io), 15 RC7/RX/DT/SEG8 (io), 16 VSS (power) "Ground reference.", 17 VDD (power) "Positive supply.", 18 RB0/AN12/INT/SEG0 (io), 19 RB1/AN10/SEG24/VLCD1 (io), 20 RB2/AN8/SEG25/VLCD2 (io), 21 RB3/AN9/SEG26/VLCD3 (io), 22 RB4/AN11/COM0 (io), 23 RB5/AN13/COM1 (io), 24 RB6/ICSPCLK/ICDCLK/SEG14 (io), 25 RB7/ICSPDAT/ICDDAT/SEG13 (io), 26 RE3/~{MCLR}/VPP (in), 27 RA0/AN0/SEG12 (io), 28 RA1/AN1/SEG7 (io), 29 EP

## PIC16LF1906-I/SO
designator U?
Flash-Based, 8-Bit CMOS Microcontroller with LCD Driver and nanoWatt XLP Technology, 20 MHz, 25 I/O, -40 to 85 degC, 28-pin SOIC (SO28), Tube; Manufacturer: Microchip; PartNumber: PIC16LF1906-I/SO; # of A/D Channels: 11; Digital Communication: 1 -A/E/USART; I/O Pins: 25; Internal Oscillator: 16 MHz, 31 kHz; Max. CPU Speed MHz: 20; Memory Type: Flash; Operation Voltage Range: 1.8V - 3.6V; Program Memory KBytes: 14; Program Memory KWords: 8; RAM: 512; Timers: 1 - 8-bit, 1 - 16-bit; DatasheetVersion: Rev. A; PackageVersion: C04-052C, 12/2012; PackageReference: SOIC-SO28; PackageDescription: 28-Lead Plastic Small Outline, 17.9 x 7.5 mm Body, 1.27 mm Pitch; Supplier 1: Digi-Key; Supplier Part Number 1: PIC16LF1906-I/SO-ND; Supplier 2: Farnell; Supplier Part Number 2: 1909436; Supplier 3: Newark; Supplier Part Number 3: 23T3139; Supplier 4: Mouser; Supplier Part Number 4: 579-PIC16LF1906-I/SO; Packing: TUBE; RoHS: TRUE; Mounting Technology: Surface Mount; ComponentLink1Description: Datasheet; ComponentLink1URL: http://ww1.microchip.com/downloads/en/DeviceDoc/41569A.pdf; ComponentLink2Description: Package Specification; ComponentLink2URL: http://www.microchip.com/stellent/groups/techpub_sg/documents/packagingspec/en012702.pdf; ComponentLink3Description: URL Link1; ComponentLink3URL: Product URL:http://www.microchip.com/datasheet/PIC16LF1906
footprint MCHP-SOIC-SO28_N (SOIC, 28-Leads, Body 17.9x7.5mm, Pitch 1.27mm, IPC Medium Density)
footprint MCHP-SOIC-SO28_L (SOIC, 28-Leads, Body 17.9x7.5mm, Pitch 1.27mm, IPC High Density)
footprint MCHP-SOIC-SO28_M (SOIC, 28-Leads, Body 17.9x7.5mm, Pitch 1.27mm, IPC Low Density)
pins: 1 RE3/~{MCLR}/VPP (in), 2 RA0/AN0/SEG12 (io), 3 RA1/AN1/SEG7 (io), 4 RA2/AN2/COM2 (io), 5 RA3/AN3/VREF+/COM3/SEG15 (io), 6 RA4/T0CKI/SEG4 (io), 7 RA5/AN4/SEG5 (io), 8 VSS (power) "Ground reference.", 9 RA7/CLKIN/SEG2 (io), 10 RA6/CLKOUT/SEG1 (io), 11 RC0/T1OSO/T1CKI (io), 12 RC1/T1OSI (io), 13 RC2/SEG3 (io), 14 RC3/SEG6 (io), 15 RC4/T1G/SEG11 (io), 16 RC5/SEG10 (io), 17 RC6/TX/CK/SEG9 (io), 18 RC7/RX/DT/SEG8 (io), 19 VSS (power) "Ground reference.", 20 VDD (power) "Positive supply.", 21 RB0/AN12/INT/SEG0 (io), 22 RB1/AN10/SEG24/VLCD1 (io), 23 RB2/AN8/SEG25/VLCD2 (io), 24 RB3/AN9/SEG26/VLCD3 (io), 25 RB4/AN11/COM0 (io), 26 RB5/AN13/COM1 (io), 27 RB6/ICSPCLK/ICDCLK/SEG14 (io), 28 RB7/ICSPDAT/ICDDAT/SEG13 (io)

## PIC16LF1906-I/SP
designator U?
Flash-Based, 8-Bit CMOS Microcontroller with LCD Driver and nanoWatt XLP Technology, 20 MHz, 25 I/O, -40 to 85 degC, 28-pin SPDIP (SP28), Tube; Manufacturer: Microchip; PartNumber: PIC16LF1906-I/SP; # of A/D Channels: 11; Digital Communication: 1 -A/E/USART; I/O Pins: 25; Internal Oscillator: 16 MHz, 31 kHz; Max. CPU Speed MHz: 20; Memory Type: Flash; Operation Voltage Range: 1.8V - 3.6V; Program Memory KBytes: 14; Program Memory KWords: 8; RAM: 512; Timers: 1 - 8-bit, 1 - 16-bit; DatasheetVersion: Rev. A; PackageVersion: C04-070B, 12/2012; PackageReference: SPDIP-SP28; PackageDescription: 28-Lead Plastic Dual In-Line, 34.86 x 6.79 mm Body, 2.54 mm Pitch; Supplier 1: Digi-Key; Supplier Part Number 1: PIC16LF1906-I/SP-ND; Supplier 2: Farnell; Supplier Part Number 2: 1909437; Supplier 3: Newark; Supplier Part Number 3: 23T3140; Supplier 4: Mouser; Supplier Part Number 4: 579-PIC16LF1906-I/SP; Packing: TUBE; RoHS: TRUE; Mounting Technology: Through Hole; ComponentLink1Description: Datasheet; ComponentLink1URL: http://ww1.microchip.com/downloads/en/DeviceDoc/41569A.pdf; ComponentLink2Description: Package Specification; ComponentLink2URL: http://www.microchip.com/stellent/groups/techpub_sg/documents/packagingspec/en012702.pdf; ComponentLink3Description: URL Link1; ComponentLink3URL: Product URL:http://www.microchip.com/datasheet/PIC16LF1906
footprint MCHP-SPDIP-SP28 (DIP, 28-Leads, Body 34.86x6.79mm, Pitch 2.54mm)
pins: 1 RE3/~{MCLR}/VPP (in), 2 RA0/AN0/SEG12 (io), 3 RA1/AN1/SEG7 (io), 4 RA2/AN2/COM2 (io), 5 RA3/AN3/VREF+/COM3/SEG15 (io), 6 RA4/T0CKI/SEG4 (io), 7 RA5/AN4/SEG5 (io), 8 VSS (power) "Ground reference.", 9 RA7/CLKIN/SEG2 (io), 10 RA6/CLKOUT/SEG1 (io), 11 RC0/T1OSO/T1CKI (io), 12 RC1/T1OSI (io), 13 RC2/SEG3 (io), 14 RC3/SEG6 (io), 15 RC4/T1G/SEG11 (io), 16 RC5/SEG10 (io), 17 RC6/TX/CK/SEG9 (io), 18 RC7/RX/DT/SEG8 (io), 19 VSS (power) "Ground reference.", 20 VDD (power) "Positive supply.", 21 RB0/AN12/INT/SEG0 (io), 22 RB1/AN10/SEG24/VLCD1 (io), 23 RB2/AN8/SEG25/VLCD2 (io), 24 RB3/AN9/SEG26/VLCD3 (io), 25 RB4/AN11/COM0 (io), 26 RB5/AN13/COM1 (io), 27 RB6/ICSPCLK/ICDCLK/SEG14 (io), 28 RB7/ICSPDAT/ICDDAT/SEG13 (io)

## PIC16LF1906-I/SS
designator U?
Flash-Based, 8-Bit CMOS Microcontroller with LCD Driver and nanoWatt XLP Technology, 20 MHz, 25 I/O, -40 to 85 degC, 28-pin SSOP (SS28), Tube; Manufacturer: Microchip; PartNumber: PIC16LF1906-I/SS; # of A/D Channels: 11; Digital Communication: 1 -A/E/USART; I/O Pins: 25; Internal Oscillator: 16 MHz, 31 kHz; Max. CPU Speed MHz: 20; Memory Type: Flash; Operation Voltage Range: 1.8V - 3.6V; Program Memory KBytes: 14; Program Memory KWords: 8; RAM: 512; Timers: 1 - 8-bit, 1 - 16-bit; DatasheetVersion: Rev. A; PackageVersion: C04-073B, 12/2012; PackageReference: SSOP-SS28; PackageDescription: 28-Lead Plastic Shrink Small Outline, 10.2 x 5.3 mm Body, 0.65 mm Pitch; Supplier 1: Digi-Key; Supplier Part Number 1: PIC16LF1906-I/SS-ND; Supplier 2: Farnell; Supplier Part Number 2: 1909414; Supplier 3: Newark; Supplier Part Number 3: 23T3141; Supplier 4: Mouser; Supplier Part Number 4: 579-PIC16LF1906-I/SS; Packing: TUBE; RoHS: TRUE; Mounting Technology: Surface Mount; ComponentLink1Description: Datasheet; ComponentLink1URL: http://ww1.microchip.com/downloads/en/DeviceDoc/41569A.pdf; ComponentLink2Description: Package Specification; ComponentLink2URL: http://www.microchip.com/stellent/groups/techpub_sg/documents/packagingspec/en012702.pdf; ComponentLink3Description: URL Link1; ComponentLink3URL: Product URL:http://www.microchip.com/datasheet/PIC16LF1906
footprint MCHP-SSOP-SS28_N (SOP, 28-Leads, Body 10.2x5.3mm, Pitch 0.65mm, IPC Medium Density)
footprint MCHP-SSOP-SS28_L (SOP, 28-Leads, Body 10.2x5.3mm, Pitch 0.65mm, IPC High Density)
footprint MCHP-SSOP-SS28_M (SOP, 28-Leads, Body 10.2x5.3mm, Pitch 0.65mm, IPC Low Density)
pins: 1 RE3/~{MCLR}/VPP (in), 2 RA0/AN0/SEG12 (io), 3 RA1/AN1/SEG7 (io), 4 RA2/AN2/COM2 (io), 5 RA3/AN3/VREF+/COM3/SEG15 (io), 6 RA4/T0CKI/SEG4 (io), 7 RA5/AN4/SEG5 (io), 8 VSS (power) "Ground reference.", 9 RA7/CLKIN/SEG2 (io), 10 RA6/CLKOUT/SEG1 (io), 11 RC0/T1OSO/T1CKI (io), 12 RC1/T1OSI (io), 13 RC2/SEG3 (io), 14 RC3/SEG6 (io), 15 RC4/T1G/SEG11 (io), 16 RC5/SEG10 (io), 17 RC6/TX/CK/SEG9 (io), 18 RC7/RX/DT/SEG8 (io), 19 VSS (power) "Ground reference.", 20 VDD (power) "Positive supply.", 21 RB0/AN12/INT/SEG0 (io), 22 RB1/AN10/SEG24/VLCD1 (io), 23 RB2/AN8/SEG25/VLCD2 (io), 24 RB3/AN9/SEG26/VLCD3 (io), 25 RB4/AN11/COM0 (io), 26 RB5/AN13/COM1 (io), 27 RB6/ICSPCLK/ICDCLK/SEG14 (io), 28 RB7/ICSPDAT/ICDDAT/SEG13 (io)

## PIC16LF1906T-I/MV
designator U?
Flash-Based, 8-Bit CMOS Microcontroller with LCD Driver and nanoWatt XLP Technology, 20 MHz, 25 I/O, -40 to 85 degC, 28-pin UQFN (MV28), Tape and Reel; Manufacturer: Microchip; PartNumber: PIC16LF1906T-I/MV; # of A/D Channels: 11; Digital Communication: 1 -A/E/USART; I/O Pins: 25; Internal Oscillator: 16 MHz, 31 kHz; Max. CPU Speed MHz: 20; Memory Type: Flash; Operation Voltage Range: 1.8V - 3.6V; Packing: T/R; Program Memory KBytes: 14; Program Memory KWords: 8; RAM: 512; Timers: 1 - 8-bit, 1 - 16-bit; DatasheetVersion: Rev. A; PackageVersion: C04-152A, 04/2013; PackageReference: UQFN-MV28; PackageDescription: 28-Lead Plastic Ultra Thin Quad Flat, Body 4 x 4 mm, Pitch 0.4 mm; Supplier 1: Digi-Key; Supplier Part Number 1: PIC16LF1906T-I/MV-ND; Supplier 2: Farnell; Supplier Part Number 2: 1909415; Supplier 3: Mouser; Supplier Part Number 3: 579-PIC16LF1906T-IMV; RoHS: TRUE; Mounting Technology: Surface Mount; ComponentLink1Description: Datasheet; ComponentLink1URL: http://ww1.microchip.com/downloads/en/DeviceDoc/41569A.pdf; ComponentLink2Description: Package Specification; ComponentLink2URL: http://www.microchip.com/stellent/groups/techpub_sg/documents/packagingspec/en012702.pdf; ComponentLink3Description: URL Link1; ComponentLink3URL: Product URL:http://www.microchip.com/datasheet/PIC16LF1906
footprint MCHP-UQFN-MV28_N (QFN, 28-Leads, Body 4x4mm, Pitch 0.4mm, Thermal Pad 2.65x2.65mm, IPC Medium Density)
footprint MCHP-UQFN-MV28_L (QFN, 28-Leads, Body 4x4mm, Pitch 0.4mm, Thermal Pad 2.65x2.65mm, IPC High Density)
footprint MCHP-UQFN-MV28_M (QFN, 28-Leads, Body 4x4mm, Pitch 0.4mm, Thermal Pad 2.65x2.65mm, IPC Low Density)
pins: 1 RA2/AN2/COM2 (io), 2 RA3/AN3/VREF+/COM3/SEG15 (io), 3 RA4/T0CKI/SEG4 (io), 4 RA5/AN4/SEG5 (io), 5 VSS (power) "Ground reference.", 6 RA7/CLKIN/SEG2 (io), 7 RA6/CLKOUT/SEG1 (io), 8 RC0/T1OSO/T1CKI (io), 9 RC1/T1OSI (io), 10 RC2/SEG3 (io), 11 RC3/SEG6 (io), 12 RC4/T1G/SEG11 (io), 13 RC5/SEG10 (io), 14 RC6/TX/CK/SEG9 (io), 15 RC7/RX/DT/SEG8 (io), 16 VSS (power) "Ground reference.", 17 VDD (power) "Positive supply.", 18 RB0/AN12/INT/SEG0 (io), 19 RB1/AN10/SEG24/VLCD1 (io), 20 RB2/AN8/SEG25/VLCD2 (io), 21 RB3/AN9/SEG26/VLCD3 (io), 22 RB4/AN11/COM0 (io), 23 RB5/AN13/COM1 (io), 24 RB6/ICSPCLK/ICDCLK/SEG14 (io), 25 RB7/ICSPDAT/ICDDAT/SEG13 (io), 26 RE3/~{MCLR}/VPP (in), 27 RA0/AN0/SEG12 (io), 28 RA1/AN1/SEG7 (io), 29 EP

## PIC16LF1906T-I/SO
designator U?
Flash-Based, 8-Bit CMOS Microcontroller with LCD Driver and nanoWatt XLP Technology, 20 MHz, 25 I/O, -40 to 85 degC, 28-pin SOIC (SO28), Tape and Reel; Manufacturer: Microchip; PartNumber: PIC16LF1906T-I/SO; # of A/D Channels: 11; Digital Communication: 1 -A/E/USART; I/O Pins: 25; Internal Oscillator: 16 MHz, 31 kHz; Max. CPU Speed MHz: 20; Memory Type: Flash; Operation Voltage Range: 1.8V - 3.6V; Packing: T/R; Program Memory KBytes: 14; Program Memory KWords: 8; RAM: 512; Timers: 1 - 8-bit, 1 - 16-bit; DatasheetVersion: Rev. A; PackageVersion: C04-052C, 12/2012; PackageReference: SOIC-SO28; PackageDescription: 28-Lead Plastic Small Outline, 17.9 x 7.5 mm Body, 1.27 mm Pitch; Supplier 1: Digi-Key; Supplier Part Number 1: PIC16LF1906T-I/SO-ND; Supplier 2: Mouser; Supplier Part Number 2: 579-PIC16LF1906T-ISO; RoHS: TRUE; Mounting Technology: Surface Mount; ComponentLink1Description: Datasheet; ComponentLink1URL: http://ww1.microchip.com/downloads/en/DeviceDoc/41569A.pdf; ComponentLink2Description: Package Specification; ComponentLink2URL: http://www.microchip.com/stellent/groups/techpub_sg/documents/packagingspec/en012702.pdf; ComponentLink3Description: URL Link1; ComponentLink3URL: Product URL:http://www.microchip.com/datasheet/PIC16LF1906
footprint MCHP-SOIC-SO28_N (SOIC, 28-Leads, Body 17.9x7.5mm, Pitch 1.27mm, IPC Medium Density)
footprint MCHP-SOIC-SO28_L (SOIC, 28-Leads, Body 17.9x7.5mm, Pitch 1.27mm, IPC High Density)
footprint MCHP-SOIC-SO28_M (SOIC, 28-Leads, Body 17.9x7.5mm, Pitch 1.27mm, IPC Low Density)
pins: 1 RE3/~{MCLR}/VPP (in), 2 RA0/AN0/SEG12 (io), 3 RA1/AN1/SEG7 (io), 4 RA2/AN2/COM2 (io), 5 RA3/AN3/VREF+/COM3/SEG15 (io), 6 RA4/T0CKI/SEG4 (io), 7 RA5/AN4/SEG5 (io), 8 VSS (power) "Ground reference.", 9 RA7/CLKIN/SEG2 (io), 10 RA6/CLKOUT/SEG1 (io), 11 RC0/T1OSO/T1CKI (io), 12 RC1/T1OSI (io), 13 RC2/SEG3 (io), 14 RC3/SEG6 (io), 15 RC4/T1G/SEG11 (io), 16 RC5/SEG10 (io), 17 RC6/TX/CK/SEG9 (io), 18 RC7/RX/DT/SEG8 (io), 19 VSS (power) "Ground reference.", 20 VDD (power) "Positive supply.", 21 RB0/AN12/INT/SEG0 (io), 22 RB1/AN10/SEG24/VLCD1 (io), 23 RB2/AN8/SEG25/VLCD2 (io), 24 RB3/AN9/SEG26/VLCD3 (io), 25 RB4/AN11/COM0 (io), 26 RB5/AN13/COM1 (io), 27 RB6/ICSPCLK/ICDCLK/SEG14 (io), 28 RB7/ICSPDAT/ICDDAT/SEG13 (io)

## PIC16LF1906T-I/SS
designator U?
Flash-Based, 8-Bit CMOS Microcontroller with LCD Driver and nanoWatt XLP Technology, 20 MHz, 25 I/O, -40 to 85 degC, 28-pin SSOP (SS28), Tape and Reel; Manufacturer: Microchip; PartNumber: PIC16LF1906T-I/SS; # of A/D Channels: 11; Digital Communication: 1 -A/E/USART; I/O Pins: 25; Internal Oscillator: 16 MHz, 31 kHz; Max. CPU Speed MHz: 20; Memory Type: Flash; Operation Voltage Range: 1.8V - 3.6V; Packing: T/R; Program Memory KBytes: 14; Program Memory KWords: 8; RAM: 512; Timers: 1 - 8-bit, 1 - 16-bit; DatasheetVersion: Rev. A; PackageVersion: C04-073B, 12/2012; PackageReference: SSOP-SS28; PackageDescription: 28-Lead Plastic Shrink Small Outline, 10.2 x 5.3 mm Body, 0.65 mm Pitch; Supplier 1: Digi-Key; Supplier Part Number 1: PIC16LF1906T-I/SS-ND; Supplier 2: Mouser; Supplier Part Number 2: 579-PIC16LF1906T-ISS; RoHS: TRUE; Mounting Technology: Surface Mount; ComponentLink1Description: Datasheet; ComponentLink1URL: http://ww1.microchip.com/downloads/en/DeviceDoc/41569A.pdf; ComponentLink2Description: Package Specification; ComponentLink2URL: http://www.microchip.com/stellent/groups/techpub_sg/documents/packagingspec/en012702.pdf; ComponentLink3Description: URL Link1; ComponentLink3URL: Product URL:http://www.microchip.com/datasheet/PIC16LF1906
footprint MCHP-SSOP-SS28_N (SOP, 28-Leads, Body 10.2x5.3mm, Pitch 0.65mm, IPC Medium Density)
footprint MCHP-SSOP-SS28_L (SOP, 28-Leads, Body 10.2x5.3mm, Pitch 0.65mm, IPC High Density)
footprint MCHP-SSOP-SS28_M (SOP, 28-Leads, Body 10.2x5.3mm, Pitch 0.65mm, IPC Low Density)
pins: 1 RE3/~{MCLR}/VPP (in), 2 RA0/AN0/SEG12 (io), 3 RA1/AN1/SEG7 (io), 4 RA2/AN2/COM2 (io), 5 RA3/AN3/VREF+/COM3/SEG15 (io), 6 RA4/T0CKI/SEG4 (io), 7 RA5/AN4/SEG5 (io), 8 VSS (power) "Ground reference.", 9 RA7/CLKIN/SEG2 (io), 10 RA6/CLKOUT/SEG1 (io), 11 RC0/T1OSO/T1CKI (io), 12 RC1/T1OSI (io), 13 RC2/SEG3 (io), 14 RC3/SEG6 (io), 15 RC4/T1G/SEG11 (io), 16 RC5/SEG10 (io), 17 RC6/TX/CK/SEG9 (io), 18 RC7/RX/DT/SEG8 (io), 19 VSS (power) "Ground reference.", 20 VDD (power) "Positive supply.", 21 RB0/AN12/INT/SEG0 (io), 22 RB1/AN10/SEG24/VLCD1 (io), 23 RB2/AN8/SEG25/VLCD2 (io), 24 RB3/AN9/SEG26/VLCD3 (io), 25 RB4/AN11/COM0 (io), 26 RB5/AN13/COM1 (io), 27 RB6/ICSPCLK/ICDCLK/SEG14 (io), 28 RB7/ICSPDAT/ICDDAT/SEG13 (io)

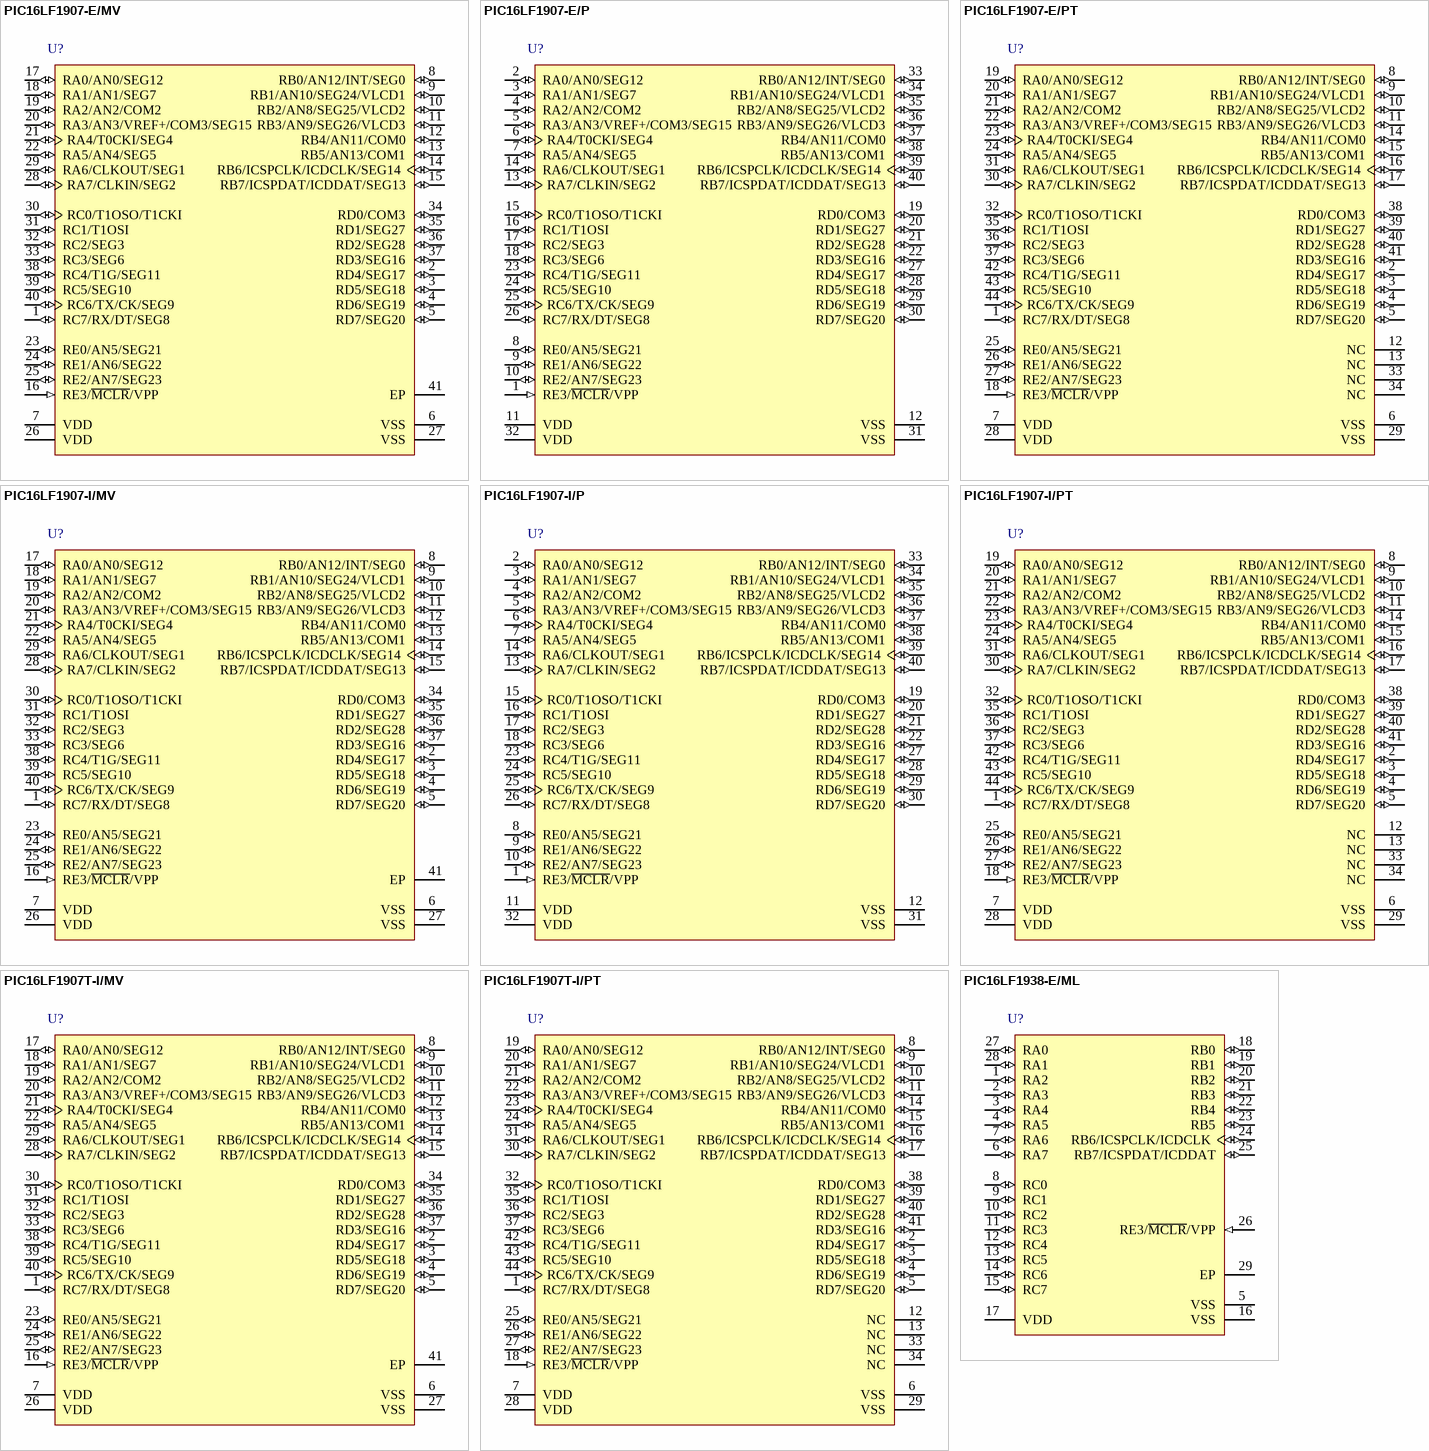
[diagram p97: symbols PIC16LF1907-E/MV to PIC16LF1938-E/ML]

## PIC16LF1907-E/MV
designator U?
Flash-Based, 8-Bit CMOS Microcontroller with LCD Driver and nanoWatt XLP Technology, 20 MHz, 35 I/O, -40 to 125 degC, 40-pin UQFN (MV40), Tube; Manufacturer: Microchip; PartNumber: PIC16LF1907-E/MV; # of A/D Channels: 14; Digital Communication: 1 -A/E/USART; I/O Pins: 35; Internal Oscillator: 16 MHz, 31 kHz; Max. CPU Speed MHz: 20; Memory Type: Flash; Operation Voltage Range: 1.8V - 3.6V; Program Memory KWords: 8; RAM: 512; Timers: 1 - 8-bit, 1 - 16-bit; DatasheetVersion: Rev. A; PackageVersion: C04-156A, 04/2013; PackageReference: UQFN-MV40; PackageDescription: 40-Lead Plastic Ultra Thin Quad Flat, No Lead Package, Body 5 x 5 mm, Pitch 0.4 mm; Supplier 1: Digi-Key; Supplier Part Number 1: PIC16LF1907-E/MV-ND; Supplier 2: Mouser; Supplier Part Number 2: 579-PIC16LF1907-E/MV; Packing: TUBE; Program Memory KBytes: 14; RoHS: TRUE; Mounting Technology: Surface Mount; ComponentLink1Description: Datasheet; ComponentLink1URL: http://ww1.microchip.com/downloads/en/DeviceDoc/41569A.pdf; ComponentLink2Description: Package Specification; ComponentLink2URL: http://www.microchip.com/stellent/groups/techpub_sg/documents/packagingspec/en012702.pdf; ComponentLink3Description: URL Link1; ComponentLink3URL: Product URL:http://www.microchip.com/datasheet/PIC16LF1907
footprint MCHP-UQFN-MV40_N (QFN, 40-Leads, Body 5x5mm, Pitch 0.4mm, Thermal Pad 3.7x3.7mm, IPC Medium Density)
footprint MCHP-UQFN-MV40_L (QFN, 40-Leads, Body 5x5mm, Pitch 0.4mm, Thermal Pad 3.7x3.7mm, IPC High Density)
footprint MCHP-UQFN-MV40_M (QFN, 40-Leads, Body 5x5mm, Pitch 0.4mm, Thermal Pad 3.7x3.7mm, IPC Low Density)
pins: 1 RC7/RX/DT/SEG8 (io), 2 RD4/SEG17 (io), 3 RD5/SEG18 (io), 4 RD6/SEG19 (io), 5 RD7/SEG20 (io), 6 VSS (power) "Ground reference.", 7 VDD (power) "Positive supply.", 8 RB0/AN12/INT/SEG0 (io), 9 RB1/AN10/SEG24/VLCD1 (io), 10 RB2/AN8/SEG25/VLCD2 (io), 11 RB3/AN9/SEG26/VLCD3 (io), 12 RB4/AN11/COM0 (io), 13 RB5/AN13/COM1 (io), 14 RB6/ICSPCLK/ICDCLK/SEG14 (io), 15 RB7/ICSPDAT/ICDDAT/SEG13 (io), 16 RE3/~{MCLR}/VPP (in), 17 RA0/AN0/SEG12 (io), 18 RA1/AN1/SEG7 (io), 19 RA2/AN2/COM2 (io), 20 RA3/AN3/VREF+/COM3/SEG15 (io), 21 RA4/T0CKI/SEG4 (io), 22 RA5/AN4/SEG5 (io), 23 RE0/AN5/SEG21 (io), 24 RE1/AN6/SEG22 (io), 25 RE2/AN7/SEG23 (io), 26 VDD (power) "Positive supply.", 27 VSS (power) "Ground reference.", 28 RA7/CLKIN/SEG2 (io), 29 RA6/CLKOUT/SEG1 (io), 30 RC0/T1OSO/T1CKI (io), 31 RC1/T1OSI (io), 32 RC2/SEG3 (io), 33 RC3/SEG6 (io), 34 RD0/COM3 (io), 35 RD1/SEG27 (io), 36 RD2/SEG28 (io), 37 RD3/SEG16 (io), 38 RC4/T1G/SEG11 (io), 39 RC5/SEG10 (io), 40 RC6/TX/CK/SEG9 (io), 41 EP

## PIC16LF1907-E/P
designator U?
Flash-Based, 8-Bit CMOS Microcontroller with LCD Driver and nanoWatt XLP Technology, 20 MHz, 35 I/O, -40 to 125 degC, 40-pin PDIP (P40), Tube; Manufacturer: Microchip; PartNumber: PIC16LF1907-E/P; # of A/D Channels: 14; Digital Communication: 1 -A/E/USART; I/O Pins: 35; Internal Oscillator: 16 MHz, 31 kHz; Max. CPU Speed MHz: 20; Memory Type: Flash; Operation Voltage Range: 1.8V - 3.6V; Program Memory KWords: 8; RAM: 512; Timers: 1 - 8-bit, 1 - 16-bit; DatasheetVersion: Rev. A; PackageVersion: C04-016B, 04/2013; PackageReference: PDIP-P40; PackageDescription: 40-Lead Plastic Dual In-Line Package, Body 51.75 x 13.53 mm, Pitch 2.54 mm; Supplier 1: Digi-Key; Supplier Part Number 1: PIC16LF1907-E/P-ND; Supplier 2: Mouser; Supplier Part Number 2: 579-PIC16LF1907-E/P; Packing: TUBE; Program Memory KBytes: 14; RoHS: TRUE; Mounting Technology: Through Hole; ComponentLink1Description: Datasheet; ComponentLink1URL: http://ww1.microchip.com/downloads/en/DeviceDoc/41569A.pdf; ComponentLink2Description: Package Specification; ComponentLink2URL: http://www.microchip.com/stellent/groups/techpub_sg/documents/packagingspec/en012702.pdf; ComponentLink3Description: URL Link1; ComponentLink3URL: Product URL:http://www.microchip.com/datasheet/PIC16LF1907
footprint MCHP-PDIP-P40 (PDIP, 40-Leads, Body 51.75x13.53mm, Pitch 2.54mm)
pins: 1 RE3/~{MCLR}/VPP (in), 2 RA0/AN0/SEG12 (io), 3 RA1/AN1/SEG7 (io), 4 RA2/AN2/COM2 (io), 5 RA3/AN3/VREF+/COM3/SEG15 (io), 6 RA4/T0CKI/SEG4 (io), 7 RA5/AN4/SEG5 (io), 8 RE0/AN5/SEG21 (io), 9 RE1/AN6/SEG22 (io), 10 RE2/AN7/SEG23 (io), 11 VDD (power) "Positive supply.", 12 VSS (power) "Ground reference.", 13 RA7/CLKIN/SEG2 (io), 14 RA6/CLKOUT/SEG1 (io), 15 RC0/T1OSO/T1CKI (io), 16 RC1/T1OSI (io), 17 RC2/SEG3 (io), 18 RC3/SEG6 (io), 19 RD0/COM3 (io), 20 RD1/SEG27 (io), 21 RD2/SEG28 (io), 22 RD3/SEG16 (io), 23 RC4/T1G/SEG11 (io), 24 RC5/SEG10 (io), 25 RC6/TX/CK/SEG9 (io), 26 RC7/RX/DT/SEG8 (io), 27 RD4/SEG17 (io), 28 RD5/SEG18 (io), 29 RD6/SEG19 (io), 30 RD7/SEG20 (io), 31 VSS (power) "Ground reference.", 32 VDD (power) "Positive supply.", 33 RB0/AN12/INT/SEG0 (io), 34 RB1/AN10/SEG24/VLCD1 (io), 35 RB2/AN8/SEG25/VLCD2 (io), 36 RB3/AN9/SEG26/VLCD3 (io), 37 RB4/AN11/COM0 (io), 38 RB5/AN13/COM1 (io), 39 RB6/ICSPCLK/ICDCLK/SEG14 (io), 40 RB7/ICSPDAT/ICDDAT/SEG13 (io)

## PIC16LF1907-E/PT
designator U?
Flash-Based, 8-Bit CMOS Microcontroller with LCD Driver and nanoWatt XLP Technology, 20 MHz, 35 I/O, -40 to 125 degC, 44-pin TQFP (PT44), Tray; Manufacturer: Microchip; PartNumber: PIC16LF1907-E/PT; # of A/D Channels: 14; Digital Communication: 1 -A/E/USART; I/O Pins: 35; Internal Oscillator: 16 MHz, 31 kHz; Max. CPU Speed MHz: 20; Memory Type: Flash; Operation Voltage Range: 1.8V - 3.6V; Program Memory KWords: 8; RAM: 512; Timers: 1 - 8-bit, 1 - 16-bit; DatasheetVersion: Rev. A; PackageVersion: C04-076B, 12/2012; PackageReference: TQFP-PT44; PackageDescription: 44-Lead Plastic Thin Quad Flatpack, 10 x 10 mm Body, 0.8 mm Pitch; Supplier 1: Digi-Key; Supplier Part Number 1: PIC16LF1907-E/PT-ND; Supplier 2: Mouser; Supplier Part Number 2: 579-PIC16LF1907-E/PT; Packing: TRAY; Program Memory KBytes: 14; RoHS: TRUE; Mounting Technology: Surface Mount; ComponentLink1Description: Datasheet; ComponentLink1URL: http://ww1.microchip.com/downloads/en/DeviceDoc/41569A.pdf; ComponentLink2Description: Package Specification; ComponentLink2URL: http://www.microchip.com/stellent/groups/techpub_sg/documents/packagingspec/en012702.pdf; ComponentLink3Description: URL Link1; ComponentLink3URL: Product URL:http://www.microchip.com/datasheet/PIC16LF1907
footprint MCHP-TQFP-PT44_N (QFN, 44-Leads, Body 10x10mm, Pitch 0.8mm, IPC Medium Density)
footprint MCHP-TQFP-PT44_L (QFN, 44-Leads, Body 10x10mm, Pitch 0.8mm, IPC High Density)
footprint MCHP-TQFP-PT44_M (QFN, 44-Leads, Body 10x10mm, Pitch 0.8mm, IPC Low Density)
pins: 1 RC7/RX/DT/SEG8 (io), 2 RD4/SEG17 (io), 3 RD5/SEG18 (io), 4 RD6/SEG19 (io), 5 RD7/SEG20 (io), 6 VSS (power) "Ground reference.", 7 VDD (power) "Positive supply.", 8 RB0/AN12/INT/SEG0 (io), 9 RB1/AN10/SEG24/VLCD1 (io), 10 RB2/AN8/SEG25/VLCD2 (io), 11 RB3/AN9/SEG26/VLCD3 (io), 12 NC, 13 NC, 14 RB4/AN11/COM0 (io), 15 RB5/AN13/COM1 (io), 16 RB6/ICSPCLK/ICDCLK/SEG14 (io), 17 RB7/ICSPDAT/ICDDAT/SEG13 (io), 18 RE3/~{MCLR}/VPP (in), 19 RA0/AN0/SEG12 (io), 20 RA1/AN1/SEG7 (io), 21 RA2/AN2/COM2 (io), 22 RA3/AN3/VREF+/COM3/SEG15 (io), 23 RA4/T0CKI/SEG4 (io), 24 RA5/AN4/SEG5 (io), 25 RE0/AN5/SEG21 (io), 26 RE1/AN6/SEG22 (io), 27 RE2/AN7/SEG23 (io), 28 VDD (power) "Positive supply.", 29 VSS (power) "Ground reference.", 30 RA7/CLKIN/SEG2 (io), 31 RA6/CLKOUT/SEG1 (io), 32 RC0/T1OSO/T1CKI (io), 33 NC, 34 NC, 35 RC1/T1OSI (io), 36 RC2/SEG3 (io), 37 RC3/SEG6 (io), 38 RD0/COM3 (io), 39 RD1/SEG27 (io), 40 RD2/SEG28 (io), 41 RD3/SEG16 (io), 42 RC4/T1G/SEG11 (io), 43 RC5/SEG10 (io), 44 RC6/TX/CK/SEG9 (io)